# Altium schematic symbol library Terminal Blocks.SchLib: 1 symbol
Pins are listed as number, name and electrical type; pins without a type are passive.

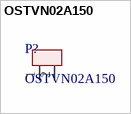
[diagram p0: symbol OSTVN02A150]

## OSTVN02A150
designator P?
Conn Terminal Block 2 POS 2.54mm Solder ST Thru-Hole 6A; Manufacturer: On-Shore Technology; Plating: Brass,Steel; Number of Levels: 1; Number of Positions Per Level: 2; Voltage: 125V; Wire Gauge (Max): 30AWG; Wire Gauge (Min): 20AWG; Designed: Ferdi; Supplier 1: Digi-Key; Manufacturer Part Number: OSTVN02A150; RoHS: Yes; Category: Terminal Blocks; Stock 1: 12298; Pricing 1: 1=1,08, 10=0,674, 25=0,5772, 50=0,5188, 100=0,5079, 250=0,43228, 500=0,41066, 1000=0,36744, 5000=0,28747 (USD); Mount: Through Hole; Number of Pins: 2; Color: Green; Contact Plating: Brass; Housing Material: Thermoplastic; Min Operating Temperature: -30°C; Max Operating Temperature: 105°C; Packaging: Bulk; Current: 6A; Termination: Screw; Series: OSTVN; RoHS Compliant: Yes; ComponentLink1URL: https://datasheet.ciiva.com/823/ostvnxxa150-823935.pdf?src-supplier=Digi-Key; ComponentLink1Description: https://datasheet.ciiva.com/823/ostvnxxa150-823935.pdf?src-supplier=Digi-Key; Supplier Part Number 1: ED10561-ND
footprint OSTVN02A150 (5.08/2 PIN)
pins: 1 A, 2 B